# Altium footprint library HTSSOP-20.PcbLib: 1 footprints
Each footprint in its own frame and in the unit in brackets; x right, y up, seen from the top. Pads: shape width x height; smd on the part's side, far side on the other; paste and mask are expansions set on the pad; w line width, h text height; cw(c..) or ccw(c..) is an arc to the next point about the centre after c.
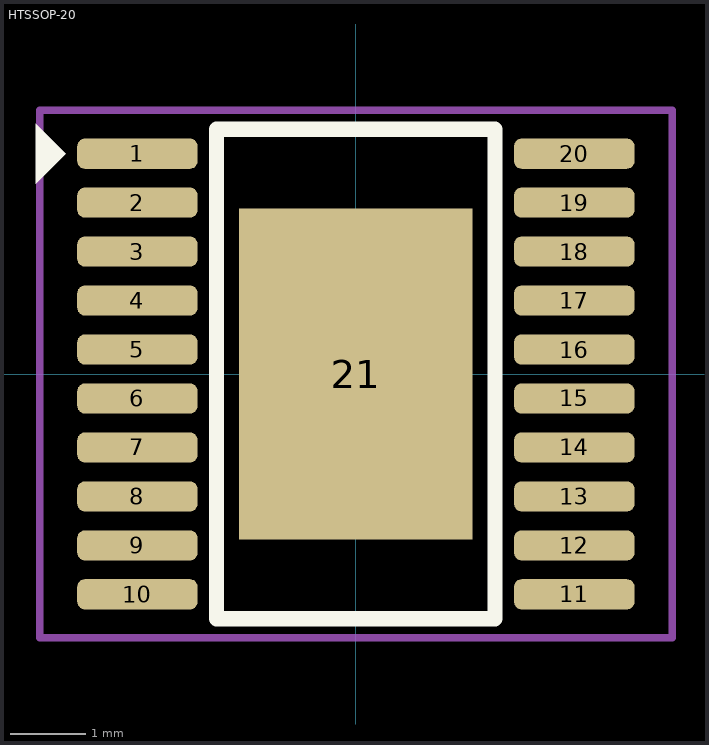
[diagram p0: the footprint, top view; thin cyan lines are the x and y axes]

## HTSSOP-20 [mm]
pads (21):
  rrect50% 1.6x0.4 smd: 1(-2.9,2.925) 2(-2.9,2.275) 3(-2.9,1.625) 4(-2.9,0.975) 5(-2.9,0.325) 6(-2.9,-0.325) 7(-2.9,-0.975) 8(-2.9,-1.625) 9(-2.9,-2.275) 10(-2.9,-2.925) 11(2.9,-2.925) 12(2.9,-2.275) 13(2.9,-1.625) 14(2.9,-0.975) 15(2.9,-0.325) 16(2.9,0.325) 17(2.9,0.975) 18(2.9,1.625) 19(2.9,2.275) 20(2.9,2.925)
  rect 3.1x4.4 smd: 21(0,0)
Top Overlay:
  region: -4.25,2.525 -4.25,3.325 -3.85,2.925
  lines w0.2: -1.85,-3.25 -1.85,3.25 1.85,3.25 1.85,-3.25 -1.85,-3.25
Top Courtyard:
  lines w0.1: -4.2,-3.504 -4.2,3.504 4.2,3.504 4.2,-3.504 -1.85,-3.504 -4.2,-3.504
3D body "User Library-TSSOP-20-2.STEP": height 1.2, standoff 0, extent -3.2,-3.25 3.2,3.25